# Altium schematic symbol library Mechanical components.SchLib: 4 symbols
Pins are listed as number, name and electrical type; pins without a type are passive.

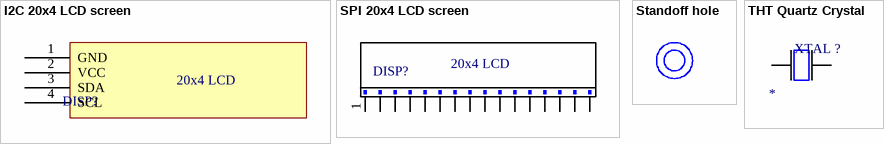
[diagram p0: symbols I2C 20x4 LCD screen to THT Quartz Crystal]

## I2C 20x4 LCD screen
designator DISP?, comment 20x4 LCD  (value not drawn)
PCB mount 20x4 I2C LCD screen 4x1 header
footprint I2C 20x4 LCD (20x4 LCD screen I2C interface)
pins: 1 GND, 2 VCC, 3 SDA, 4 SCL

## SPI 20x4 LCD screen
designator DISP?, comment 20x4 LCD  (value not drawn)
PCB mount 20x4 SPI LCD screen 16x1 header
footprint SPI 20x4 LCD (20x4 LCD screen SPI interface)
pins: 1, 2, 3, 4, 5, 6, 7, 8, 9, 10, 11, 12, 13, 14, 15, 16

## Standoff hole
designator Mech ?, comment Hole  (value not drawn)
Standoff hole - multiple diameters
footprint 3mm Standoff

## THT Quartz Crystal
designator XTAL ?, comment Quartz  (value not drawn)
THT HC49-S Quartz Crystal 4,88 mm pitch multiple frequencies; Package Type: THT; Frequency: *
footprint Quartz Crystal
pins: 1, 2